# EAGLE library part ADA4528-1ARMZ-R7 (library ADA4528-1ARMZ-R7)
Check availability <https://pricing.snapeda.com/parts/ADA4528-1ARMZ-R7/Analog%20Devices/view-part?ref=eda>
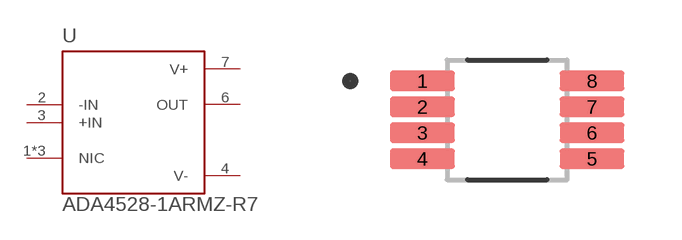
[diagram p0: symbol with the pads of SOP65P490X110-8N; footprint SOP65P490X110-8N]

Designator prefix U

## ADA4528-1ARMZ-R7 (Availability: In Stock; Check_prices: https://www.snapeda.com/parts/ADA4528-1ARMZ-R7/Analog+Devices/view-part/?ref=eda; Description: Precision, Ultralow Noise, RRIO, Zero-Drift Single Op Amp; MF: Analog Devices; MP: ADA4528-1ARMZ-R7; Package: MSOP-8 Analog Devices; Price: None; SnapEDA_Link: https://www.snapeda.com/parts/ADA4528-1ARMZ-R7/Analog+Devices/view-part/?ref=snap)  [SOP65P490X110-8N]
1  NIC  nc
2  -IN  in
3  +IN  in
4  V-  pwr
5  NIC  nc
6  OUT  out
7  V+  pwr
8  NIC  nc

## Footprint SOP65P490X110-8N (pad centres in mm)
smd 1.62 x 0.5: 1 -2.12,0.975; 2 -2.12,0.325; 3 -2.12,-0.325; 4 -2.12,-0.975; 5 2.12,-0.975; 6 2.12,-0.325; 7 2.12,0.325; 8 2.12,0.975